# Altium schematic symbol library 1.0 - 常见芯片.SchLib: 188 symbols (part 2 of 2)
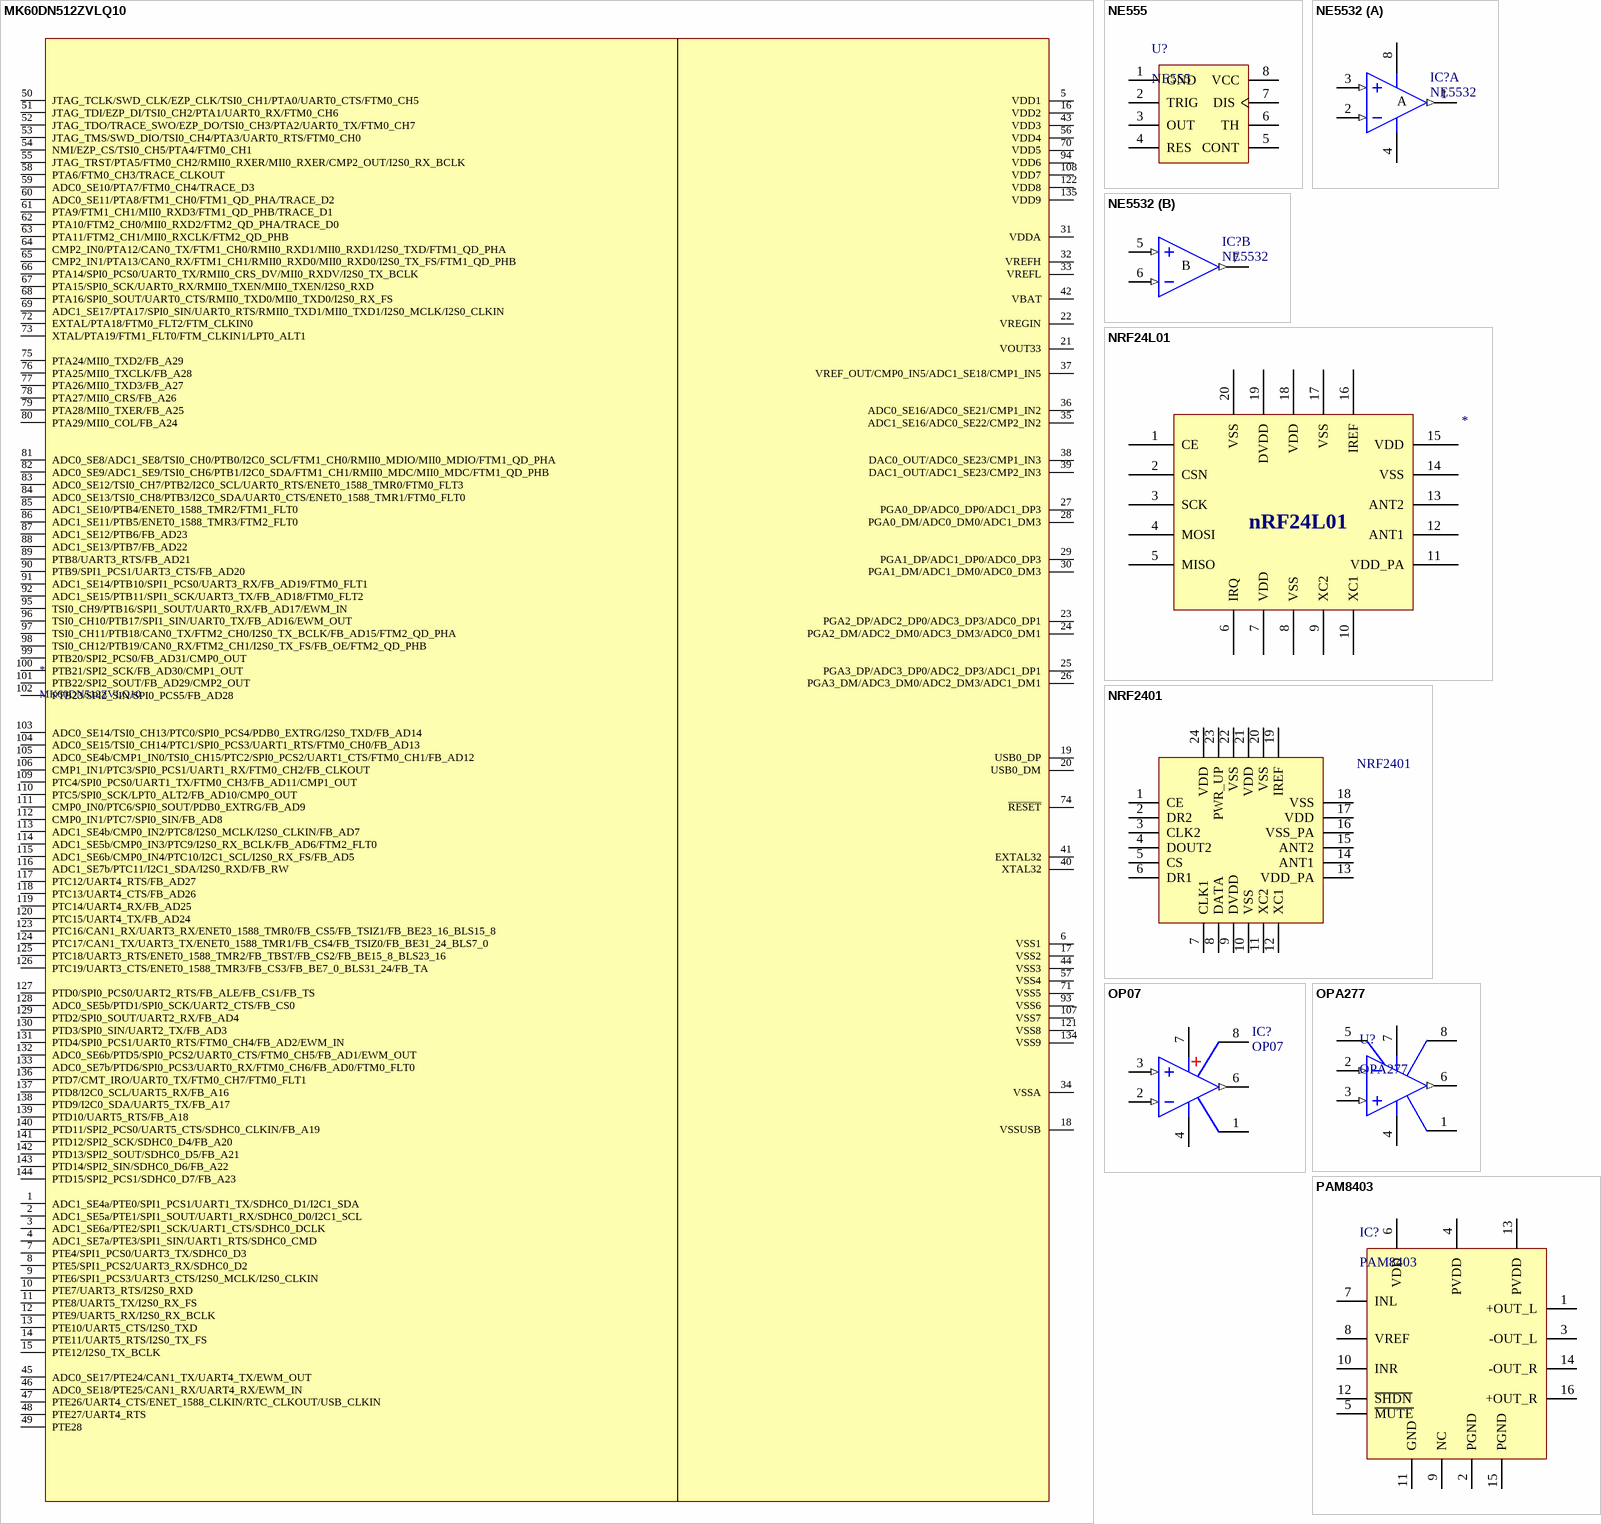
[diagram p14: symbols MK60DN512ZVLQ10 to PAM8403]

## MK60DN512ZVLQ10
designator *
飞思卡尔K60; 联系卖家，免费查找封装: 唯一出售店铺网址https://shop463601444.taobao.com
footprint LQFP144-20*20 (20x20mm，0.5mm       淘宝ID:黄晶宝石)
pins: 1 ADC1_SE4a/PTE0/SPI1_PCS1/UART1_TX/SDHC0_D1/I2C1_SDA, 2 ADC1_SE5a/PTE1/SPI1_SOUT/UART1_RX/SDHC0_D0/I2C1_SCL, 3 ADC1_SE6a/PTE2/SPI1_SCK/UART1_CTS/SDHC0_DCLK, 4 ADC1_SE7a/PTE3/SPI1_SIN/UART1_RTS/SDHC0_CMD, 5 VDD1, 6 VSS1, 7 PTE4/SPI1_PCS0/UART3_TX/SDHC0_D3, 8 PTE5/SPI1_PCS2/UART3_RX/SDHC0_D2, 9 PTE6/SPI1_PCS3/UART3_CTS/I2S0_MCLK/I2S0_CLKIN, 10 PTE7/UART3_RTS/I2S0_RXD, 11 PTE8/UART5_TX/I2S0_RX_FS, 12 PTE9/UART5_RX/I2S0_RX_BCLK, 13 PTE10/UART5_CTS/I2S0_TXD, 14 PTE11/UART5_RTS/I2S0_TX_FS, 15 PTE12/I2S0_TX_BCLK, 16 VDD2, 17 VSS2, 18 VSSUSB, 19 USB0_DP, 20 USB0_DM, 21 VOUT33, 22 VREGIN, 23 PGA2_DP/ADC2_DP0/ADC3_DP3/ADC0_DP1, 24 PGA2_DM/ADC2_DM0/ADC3_DM3/ADC0_DM1, 25 PGA3_DP/ADC3_DP0/ADC2_DP3/ADC1_DP1, 26 PGA3_DM/ADC3_DM0/ADC2_DM3/ADC1_DM1, 27 PGA0_DP/ADC0_DP0/ADC1_DP3, 28 PGA0_DM/ADC0_DM0/ADC1_DM3, 29 PGA1_DP/ADC1_DP0/ADC0_DP3, 30 PGA1_DM/ADC1_DM0/ADC0_DM3, 31 VDDA, 32 VREFH, 33 VREFL, 34 VSSA, 35 ADC1_SE16/ADC0_SE22/CMP2_IN2, 36 ADC0_SE16/ADC0_SE21/CMP1_IN2, 37 VREF_OUT/CMP0_IN5/ADC1_SE18/CMP1_IN5, 38 DAC0_OUT/ADC0_SE23/CMP1_IN3, 39 DAC1_OUT/ADC1_SE23/CMP2_IN3, 40 XTAL32, 41 EXTAL32, 42 VBAT, 43 VDD3, 44 VSS3, 45 ADC0_SE17/PTE24/CAN1_TX/UART4_TX/EWM_OUT, 46 ADC0_SE18/PTE25/CAN1_RX/UART4_RX/EWM_IN, 47 PTE26/UART4_CTS/ENET_1588_CLKIN/RTC_CLKOUT/USB_CLKIN, 48 PTE27/UART4_RTS, 49 PTE28, 50 JTAG_TCLK/SWD_CLK/EZP_CLK/TSI0_CH1/PTA0/UART0_CTS/FTM0_CH5, 51 JTAG_TDI/EZP_DI/TSI0_CH2/PTA1/UART0_RX/FTM0_CH6, 52 JTAG_TDO/TRACE_SWO/EZP_DO/TSI0_CH3/PTA2/UART0_TX/FTM0_CH7, 53 JTAG_TMS/SWD_DIO/TSI0_CH4/PTA3/UART0_RTS/FTM0_CH0, 54 NMI/EZP_CS/TSI0_CH5/PTA4/FTM0_CH1, 55 JTAG_TRST/PTA5/FTM0_CH2/RMII0_RXER/MII0_RXER/CMP2_OUT/I2S0_RX_BCLK, 56 VDD4, 57 VSS4, 58 PTA6/FTM0_CH3/TRACE_CLKOUT, 59 ADC0_SE10/PTA7/FTM0_CH4/TRACE_D3, 60 ADC0_SE11/PTA8/FTM1_CH0/FTM1_QD_PHA/TRACE_D2, 61 PTA9/FTM1_CH1/MII0_RXD3/FTM1_QD_PHB/TRACE_D1, 62 PTA10/FTM2_CH0/MII0_RXD2/FTM2_QD_PHA/TRACE_D0, 63 PTA11/FTM2_CH1/MII0_RXCLK/FTM2_QD_PHB, 64 CMP2_IN0/PTA12/CAN0_TX/FTM1_CH0/RMII0_RXD1/MII0_RXD1/I2S0_TXD/FTM1_QD_PHA, 65 CMP2_IN1/PTA13/CAN0_RX/FTM1_CH1/RMII0_RXD0/MII0_RXD0/I2S0_TX_FS/FTM1_QD_PHB, 66 PTA14/SPI0_PCS0/UART0_TX/RMII0_CRS_DV/MII0_RXDV/I2S0_TX_BCLK, 67 PTA15/SPI0_SCK/UART0_RX/RMII0_TXEN/MII0_TXEN/I2S0_RXD, 68 PTA16/SPI0_SOUT/UART0_CTS/RMII0_TXD0/MII0_TXD0/I2S0_RX_FS, 69 ADC1_SE17/PTA17/SPI0_SIN/UART0_RTS/RMII0_TXD1/MII0_TXD1/I2S0_MCLK/I2S0_CLKIN, 70 VDD5, 71 VSS5, 72 EXTAL/PTA18/FTM0_FLT2/FTM_CLKIN0, 73 XTAL/PTA19/FTM1_FLT0/FTM_CLKIN1/LPT0_ALT1, 74 ~{RESET}, 75 PTA24/MII0_TXD2/FB_A29, 76 PTA25/MII0_TXCLK/FB_A28, 77 PTA26/MII0_TXD3/FB_A27, 78 PTA27/MII0_CRS/FB_A26, 79 PTA28/MII0_TXER/FB_A25, 80 PTA29/MII0_COL/FB_A24, 81 ADC0_SE8/ADC1_SE8/TSI0_CH0/PTB0/I2C0_SCL/FTM1_CH0/RMII0_MDIO/MII0_MDIO/FTM1_QD_PHA, 82 ADC0_SE9/ADC1_SE9/TSI0_CH6/PTB1/I2C0_SDA/FTM1_CH1/RMII0_MDC/MII0_MDC/FTM1_QD_PHB, 83 ADC0_SE12/TSI0_CH7/PTB2/I2C0_SCL/UART0_RTS/ENET0_1588_TMR0/FTM0_FLT3, 84 ADC0_SE13/TSI0_CH8/PTB3/I2C0_SDA/UART0_CTS/ENET0_1588_TMR1/FTM0_FLT0, 85 ADC1_SE10/PTB4/ENET0_1588_TMR2/FTM1_FLT0, 86 ADC1_SE11/PTB5/ENET0_1588_TMR3/FTM2_FLT0, 87 ADC1_SE12/PTB6/FB_AD23, 88 ADC1_SE13/PTB7/FB_AD22, 89 PTB8/UART3_RTS/FB_AD21, 90 PTB9/SPI1_PCS1/UART3_CTS/FB_AD20, 91 ADC1_SE14/PTB10/SPI1_PCS0/UART3_RX/FB_AD19/FTM0_FLT1, 92 ADC1_SE15/PTB11/SPI1_SCK/UART3_TX/FB_AD18/FTM0_FLT2, 93 VSS6, 94 VDD6, 95 TSI0_CH9/PTB16/SPI1_SOUT/UART0_RX/FB_AD17/EWM_IN, 96 TSI0_CH10/PTB17/SPI1_SIN/UART0_TX/FB_AD16/EWM_OUT, 97 TSI0_CH11/PTB18/CAN0_TX/FTM2_CH0/I2S0_TX_BCLK/FB_AD15/FTM2_QD_PHA, 98 TSI0_CH12/PTB19/CAN0_RX/FTM2_CH1/I2S0_TX_FS/FB_OE/FTM2_QD_PHB, 99 PTB20/SPI2_PCS0/FB_AD31/CMP0_OUT, 100 PTB21/SPI2_SCK/FB_AD30/CMP1_OUT, 101 PTB22/SPI2_SOUT/FB_AD29/CMP2_OUT, 102 PTB23/SPI2_SIN/SPI0_PCS5/FB_AD28, 103 ADC0_SE14/TSI0_CH13/PTC0/SPI0_PCS4/PDB0_EXTRG/I2S0_TXD/FB_AD14, 104 ADC0_SE15/TSI0_CH14/PTC1/SPI0_PCS3/UART1_RTS/FTM0_CH0/FB_AD13, 105 ADC0_SE4b/CMP1_IN0/TSI0_CH15/PTC2/SPI0_PCS2/UART1_CTS/FTM0_CH1/FB_AD12, 106 CMP1_IN1/PTC3/SPI0_PCS1/UART1_RX/FTM0_CH2/FB_CLKOUT, 107 VSS7, 108 VDD7, 109 PTC4/SPI0_PCS0/UART1_TX/FTM0_CH3/FB_AD11/CMP1_OUT, 110 PTC5/SPI0_SCK/LPT0_ALT2/FB_AD10/CMP0_OUT, 111 CMP0_IN0/PTC6/SPI0_SOUT/PDB0_EXTRG/FB_AD9, 112 CMP0_IN1/PTC7/SPI0_SIN/FB_AD8, 113 ADC1_SE4b/CMP0_IN2/PTC8/I2S0_MCLK/I2S0_CLKIN/FB_AD7, 114 ADC1_SE5b/CMP0_IN3/PTC9/I2S0_RX_BCLK/FB_AD6/FTM2_FLT0, 115 ADC1_SE6b/CMP0_IN4/PTC10/I2C1_SCL/I2S0_RX_FS/FB_AD5, 116 ADC1_SE7b/PTC11/I2C1_SDA/I2S0_RXD/FB_RW, 117 PTC12/UART4_RTS/FB_AD27, 118 PTC13/UART4_CTS/FB_AD26, 119 PTC14/UART4_RX/FB_AD25, 120 PTC15/UART4_TX/FB_AD24, 121 VSS8, 122 VDD8, 123 PTC16/CAN1_RX/UART3_RX/ENET0_1588_TMR0/FB_CS5/FB_TSIZ1/FB_BE23_16_BLS15_8, 124 PTC17/CAN1_TX/UART3_TX/ENET0_1588_TMR1/FB_CS4/FB_TSIZ0/FB_BE31_24_BLS7_0, 125 PTC18/UART3_RTS/ENET0_1588_TMR2/FB_TBST/FB_CS2/FB_BE15_8_BLS23_16, 126 PTC19/UART3_CTS/ENET0_1588_TMR3/FB_CS3/FB_BE7_0_BLS31_24/FB_TA, 127 PTD0/SPI0_PCS0/UART2_RTS/FB_ALE/FB_CS1/FB_TS, 128 ADC0_SE5b/PTD1/SPI0_SCK/UART2_CTS/FB_CS0, 129 PTD2/SPI0_SOUT/UART2_RX/FB_AD4, 130 PTD3/SPI0_SIN/UART2_TX/FB_AD3, 131 PTD4/SPI0_PCS1/UART0_RTS/FTM0_CH4/FB_AD2/EWM_IN, 132 ADC0_SE6b/PTD5/SPI0_PCS2/UART0_CTS/FTM0_CH5/FB_AD1/EWM_OUT, 133 ADC0_SE7b/PTD6/SPI0_PCS3/UART0_RX/FTM0_CH6/FB_AD0/FTM0_FLT0, 134 VSS9, 135 VDD9, 136 PTD7/CMT_IRO/UART0_TX/FTM0_CH7/FTM0_FLT1, 137 PTD8/I2C0_SCL/UART5_RX/FB_A16, 138 PTD9/I2C0_SDA/UART5_TX/FB_A17, 139 PTD10/UART5_RTS/FB_A18, 140 PTD11/SPI2_PCS0/UART5_CTS/SDHC0_CLKIN/FB_A19, 141 PTD12/SPI2_SCK/SDHC0_D4/FB_A20, 142 PTD13/SPI2_SOUT/SDHC0_D5/FB_A21, 143 PTD14/SPI2_SIN/SDHC0_D6/FB_A22, 144 PTD15/SPI2_PCS1/SDHC0_D7/FB_A23

## NE555
designator U?
单路时基芯片; 联系卖家，免费查找封装: 唯一出售店铺网址https://shop463601444.taobao.com; BOM名称: 单路时基芯片
footprint SOP8_L (5*6*1.8mm（长宽高）)
footprint SOP8_M (5*6*1.8mm（长宽高）)
footprint SOP8_N (5*6*1.8mm（长宽高）)
footprint DIP8-300 (9.4*7.6*3.8(长宽高）)
footprint DIP8-300_MH (带底座 9.4*7.6*3.8(长宽高）)
pins: 1 GND, 2 TRIG, 3 OUT, 4 RES, 5 CONT, 6 TH, 7 DIS, 8 VCC

## NE5532
designator IC?
双路低噪声音频运放; 联系卖家，免费查找封装: 唯一出售店铺网址https://shop463601444.taobao.com; BOM名称: 双路低噪声音频运放
footprint SOP8_L (5*6*1.8mm（长宽高）)
footprint SOP8_N (5*6*1.8mm（长宽高）)
footprint SOP8_M (5*6*1.8mm（长宽高）)
footprint DIP8-300 (9.4*7.6*3.8(长宽高）)
part A pins: 1 OUT (out), 2 IN- (in), 3 IN+ (in), 4 V- (power), 8 V+ (power)
part B pins: 5 IN+ (in), 6 IN- (in), 7 OUT (out)
part A text: A
part B text: B

## NRF24L01
designator ?
2.4GHZ无线收发器; 联系卖家，免费查找封装: 唯一出售店铺网址https://shop463601444.taobao.com
footprint QFN20 4x4_N (20脚，长x宽x高：4x4x0.95mm，脚距：0.5mm)
pins: 1 CE, 2 CSN, 3 SCK, 4 MOSI, 5 MISO, 6 IRQ, 7 VDD, 8 VSS, 9 XC2, 10 XC1, 11 VDD_PA, 12 ANT1, 13 ANT2, 14 VSS, 15 VDD, 16 IREF, 17 VSS, 18 VDD, 19 DVDD, 20 VSS
text: nRF24L01

## NRF2401
designator ?
2.4GHZ无线收发器; 联系卖家，免费查找封装: 唯一出售店铺网址https://shop463601444.taobao.com
footprint QFN-24 (Footprint not found)
pins: 1 CE, 2 DR2, 3 CLK2, 4 DOUT2, 5 CS, 6 DR1, 7 CLK1, 8 DATA, 9 DVDD, 10 VSS, 11 XC2, 12 XC1, 13 VDD_PA, 14 ANT1, 15 ANT2, 16 VSS_PA, 17 VDD, 18 VSS, 19 IREF, 20 VSS, 21 VDD, 22 VSS, 23 PWR_UP, 24 VDD

## OP07
designator IC?
单路精密运放; 联系卖家，免费查找封装: 唯一出售店铺网址https://shop463601444.taobao.com; BOM名称: 单路精密运放
footprint SOP8_L (5*6*1.8mm（长宽高）)
footprint SOP8_N (5*6*1.8mm（长宽高）)
footprint SOP8_M (5*6*1.8mm（长宽高）)
footprint DIP8-300 (9.4*7.6*3.8(长宽高）)
pins: 1, 2 IN- (in), 3 IN+ (in), 4 V- (power), 6 OUT (out), 7 V+ (power), 8

## OPA277
designator U?
双电源高精度运放; 联系卖家，免费查找封装: 唯一出售店铺网址https://shop463601444.taobao.com; BOM名称: 双电源高精度运放
footprint SOP8_N (5*6*1.8mm（长宽高）)
footprint SOP8_L (5*6*1.8mm（长宽高）)
footprint SOP8_M (5*6*1.8mm（长宽高）)
pins: 1, 2 IN- (in), 3 IN+ (in), 4 V- (power), 5 NC (power), 6 OS NUL (out), 7, 8

## PAM8403
designator IC?
2X3W D类功放; 联系卖家，免费查找封装: 唯一出售店铺网址https://shop463601444.taobao.com; BOM名称: 2X3W D类功放
footprint SOP16_N (10.3*6.2*1.8mm（长宽高）)
footprint SOP16_L (10.3*6.2*1.8mm（长宽高）)
footprint SOP16_M (10.3*6.2*1.8mm（长宽高）)
pins: 1 +OUT_L, 2 PGND, 3 -OUT_L, 4 PVDD, 5 ~{MUTE}, 6 VDD, 7 INL, 8 VREF, 9 NC, 10 INR, 11 GND, 12 ~{SHDN}, 13 PVDD, 14 -OUT_R, 15 PGND, 16 +OUT_R

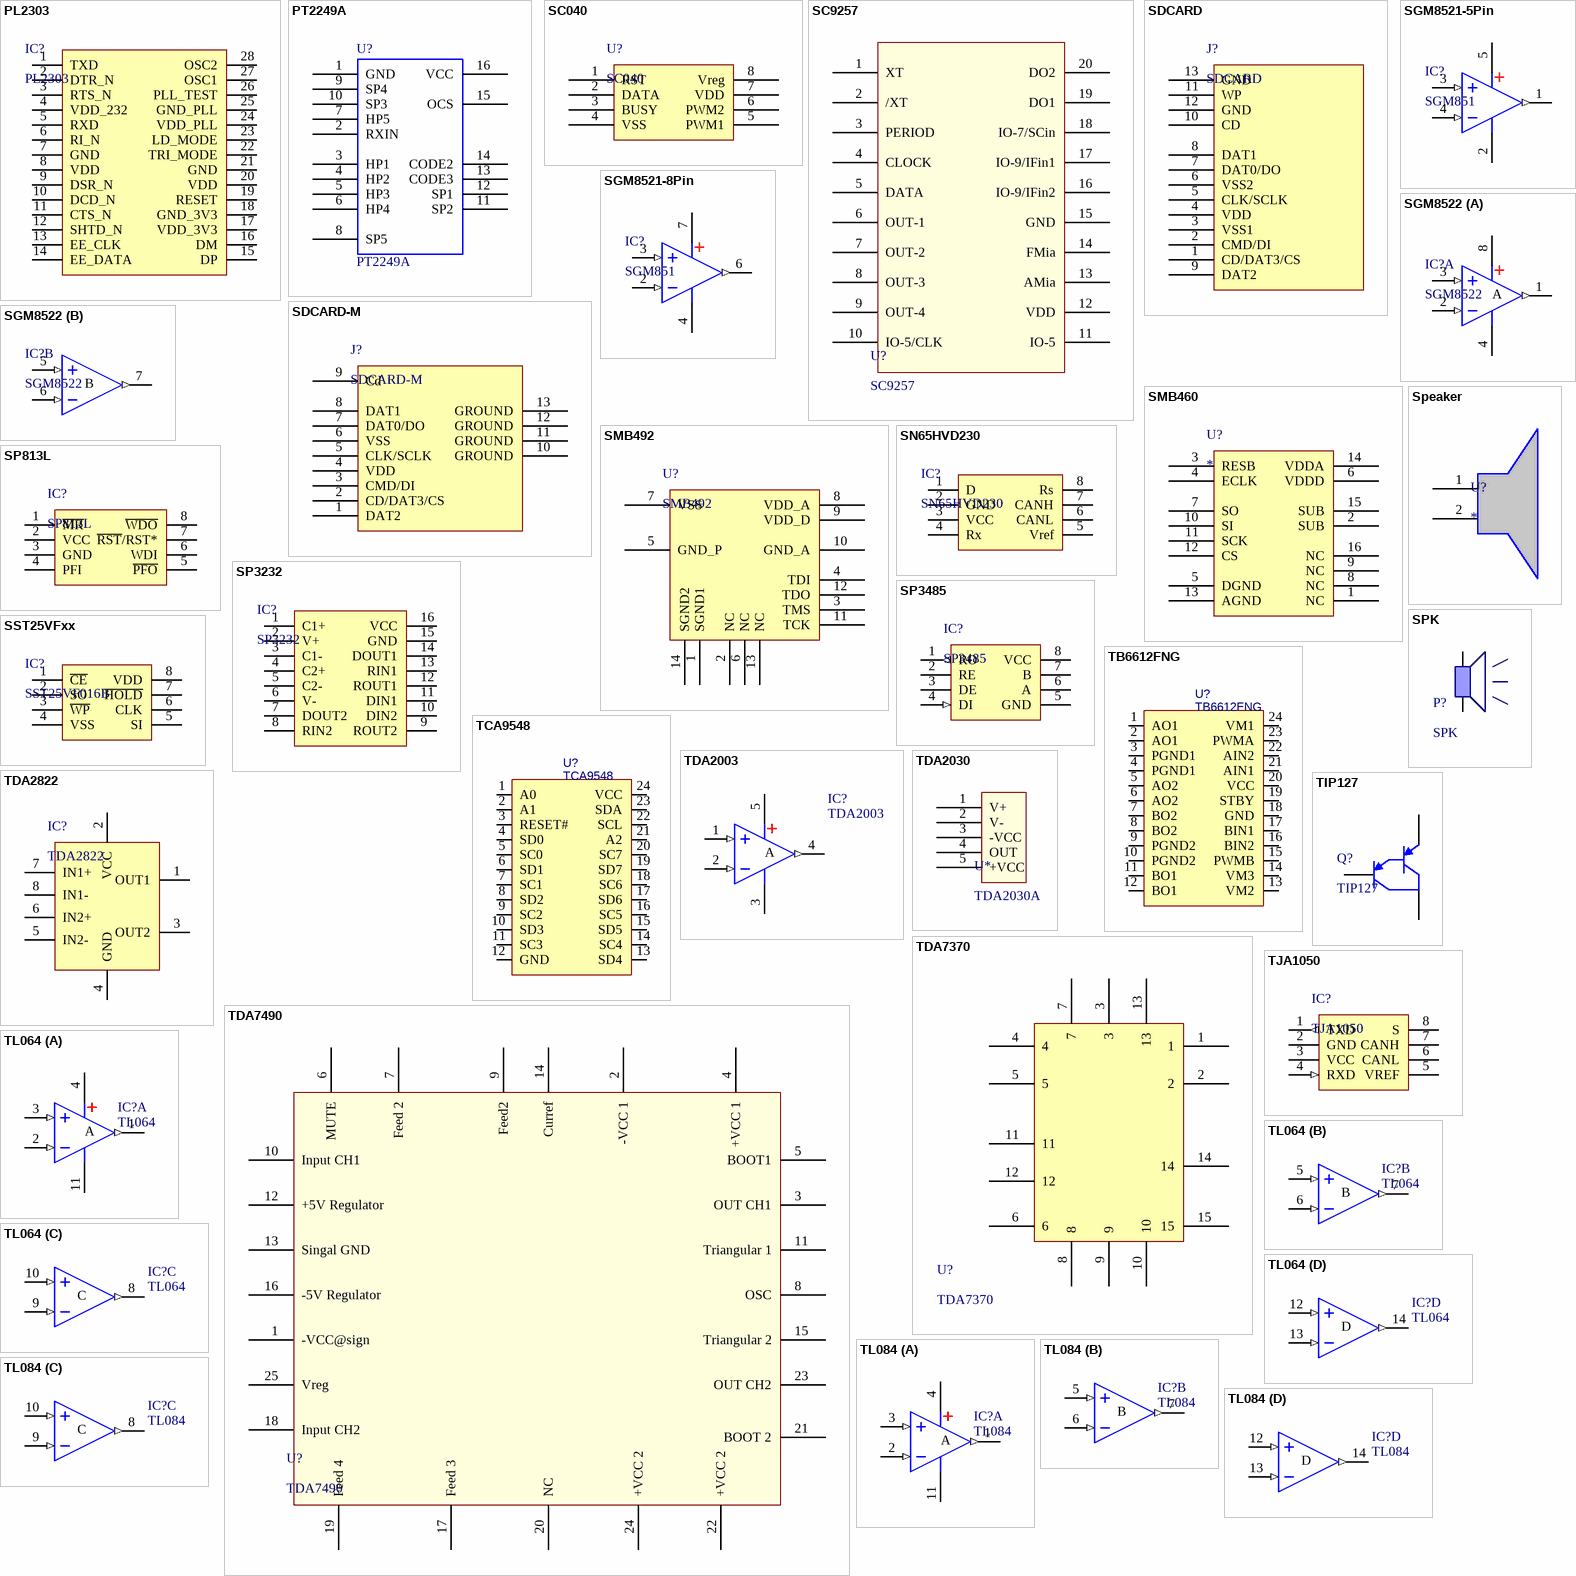
[diagram p9: symbols PL2303 to TL084]

## PL2303
designator IC?
USB转RS232; 联系卖家，免费查找封装: 唯一出售店铺网址https://shop463601444.taobao.com; BOM名称: USB转RS232
footprint SSOP28_N (10.2*7.8*1.9mm(长宽高）)
footprint SSOP28_L (10.2*7.8*1.9mm(长宽高）)
footprint SSOP28_M (10.2*7.8*1.9mm(长宽高）)
pins: 1 TXD, 2 DTR_N, 3 RTS_N, 4 VDD_232, 5 RXD, 6 RI_N, 7 GND, 8 VDD, 9 DSR_N, 10 DCD_N, 11 CTS_N, 12 SHTD_N, 13 EE_CLK, 14 EE_DATA, 15 DP, 16 DM, 17 VDD_3V3, 18 GND_3V3, 19 RESET, 20 VDD, 21 GND, 22 TRI_MODE, 23 LD_MODE, 24 VDD_PLL, 25 GND_PLL, 26 PLL_TEST, 27 OSC1, 28 OSC2

## PT2249A
designator U?
红外遥控接收器; 联系卖家，免费查找封装: 唯一出售店铺网址https://shop463601444.taobao.com
footprint DIP-16 (19.3*7.6*3.8(长宽高）)
pins: 1 GND, 2 RXIN, 3 HP1, 4 HP2, 5 HP3, 6 HP4, 7 HP5, 8 SP5, 9 SP4, 10 SP3, 11 SP2, 12 SP1, 13 CODE3, 14 CODE2, 15 OCS, 16 VCC

## SC040
designator U?
语音; 联系卖家，免费查找封装: 唯一出售店铺网址https://shop463601444.taobao.com
footprint SOIC-8_150mil (封装库来自淘宝卖家 ID：黄晶宝石)
pins: 1 RST, 2 DATA, 3 BUSY, 4 VSS, 5 PWM1, 6 PWM2, 7 VDD, 8 Vreg

## SC9257
designator U?
数字调谐系统锁相环; 联系卖家，免费查找封装: 唯一出售店铺网址https://shop463601444.taobao.com
pins: 1 XT, 2 /XT, 3 PERIOD, 4 CLOCK, 5 DATA, 6 OUT-1, 7 OUT-2, 8 OUT-3, 9 OUT-4, 10 IO-5/CLK, 11 IO-5, 12 VDD, 13 AMia, 14 FMia, 15 GND, 16 IO-9/IFin2, 17 IO-9/IFin1, 18 IO-7/SCin, 19 DO1, 20 DO2

## SDCARD
designator J?
SD卡自弹; 联系卖家，免费查找封装: 唯一出售店铺网址https://shop463601444.taobao.com
footprint SDCARD_B (SD卡自弹)
pins: 1 CD/DAT3/CS, 2 CMD/DI, 3 VSS1, 4 VDD, 5 CLK/SCLK, 6 VSS2, 7 DAT0/DO, 8 DAT1, 9 DAT2, 10 CD, 11 WP, 12 GND, 13 GND

## SDCARD-M
designator J?
TF卡槽; 联系卖家，免费查找封装: 唯一出售店铺网址https://shop463601444.taobao.com
footprint SDCARD-M (TF卡       淘宝ID:黄晶宝石)
pins: 1 DAT2, 2 CD/DAT3/CS, 3 CMD/DI, 4 VDD, 5 CLK/SCLK, 6 VSS, 7 DAT0/DO, 8 DAT1, 9 Cd, 10 GROUND, 11 GROUND, 12 GROUND, 13 GROUND

## SGM8521-5Pin
designator IC?, comment SGM851
轨至轨运放; 联系卖家，免费查找封装: 唯一出售店铺网址https://shop463601444.taobao.com; BOM名称: 轨至轨运放
footprint SOT23-5N (3x1.6x1.1mm(长宽高))
footprint SOT23-5L (3x1.6x1.1mm(长宽高))
footprint SOT23-5M (3x1.6x1.1mm(长宽高))
pins: 1 OUT (out), 2 V- (power), 3 IN+ (in), 4 IN- (in), 5 V+ (power)

## SGM8521-8Pin
designator IC?, comment SGM851
轨至轨运放; 联系卖家，免费查找封装: 唯一出售店铺网址https://shop463601444.taobao.com; BOM名称: 轨至轨运放
footprint SOP8_N (5*6*1.8mm（长宽高）)
footprint SOP8_L (4*5*1.8mm（长宽高）)
footprint SOP8_M (5*6*1.8mm（长宽高）)
pins: 2 IN- (in), 3 (in), 4 V- (power), 6 OUT (out), 7 V+ (power)

## SGM8522
designator IC?
轨至轨运放; 联系卖家，免费查找封装: 唯一出售店铺网址https://shop463601444.taobao.com; BOM名称: 轨至轨运放
footprint SOP8_N (5*6*1.8mm（长宽高）)
footprint SOP8_L (5*6*1.8mm（长宽高）)
footprint SOP8_M (5*6*1.8mm（长宽高）)
part A pins: 1 OUT (out), 2 IN- (in), 3 IN+ (in), 4 V- (power), 8 V+ (power)
part B pins: 5 IN+ (in), 6 IN- (in), 7 OUT (out)
part A text: A
part B text: B

## SMB460
designator U?
SMB460; 联系卖家，免费查找封装: 唯一出售店铺网址https://shop463601444.taobao.com
footprint SOP16W_M (Footprint not found)
pins: 1 NC, 2 SUB, 3 RESB, 4 ECLK, 5 DGND, 6 VDDD, 7 SO, 8 NC, 9 NC, 10 SI, 11 SCK, 12 CS, 13 AGND, 14 VDDA, 15 SUB, 16 NC

## SMB492
designator U?
外围加速度传感器; 联系卖家，免费查找封装: 唯一出售店铺网址https://shop463601444.taobao.com
footprint SOP14_M (Footprint not found)
pins: 1 SGND1, 2 NC, 3 TMS, 4 TDI, 5 GND_P, 6 NC, 7 VSS, 8 VDD_A, 9 VDD_D, 10 GND_A, 11 TCK, 12 TDO, 13 NC, 14 SGND2

## SN65HVD230
designator IC?
CAN芯片; 联系卖家，免费查找封装: 唯一出售店铺网址https://shop463601444.taobao.com; BOM名称: CAN芯片
footprint SOP8_N (5*6*1.8mm（长宽高）)
footprint SOP8_L (5*6*1.8mm（长宽高）)
footprint SOP8_M (5*6*1.8mm（长宽高）)
pins: 1 D, 2 GND, 3 VCC, 4 Rx, 5 Vref, 6 CANL, 7 CANH, 8 Rs

## SP813L
designator IC?
处理器监控芯片; 联系卖家，免费查找封装: 唯一出售店铺网址https://shop463601444.taobao.com; BOM名称: 处理器监控芯片
footprint SOP8_L (5*6*1.8mm（长宽高）)
footprint SOP8_N (5*6*1.8mm（长宽高）)
footprint SOP8_M (5*6*1.8mm（长宽高）)
pins: 1 ~{MR}, 2 VCC, 3 GND, 4 PFI, 5 ~{PFO}, 6 WDI, 7 ~{RST}/RST*, 8 ~{WDO}

## SP3232
designator IC?
RS232通讯芯片; 联系卖家，免费查找封装: 唯一出售店铺网址https://shop463601444.taobao.com; BOM名称: RS232通讯芯片
footprint DIP16-300 (19.3*7.6*3.8(长宽高）)
footprint SOP16_L (10.3*6.2*1.8mm（长宽高）)
footprint SOP16_N (10.3*6.2*1.8mm（长宽高）)
footprint SOP16_M (10.3*6.2*1.8mm（长宽高）)
footprint TSSOP16_L (5*6.4*1mm（长宽高）)
footprint TSSOP16_M (5*6.4*1mm（长宽高）)
footprint TSSOP16_N (5*6.4*1mm（长宽高）)
pins: 1 C1+, 2 V+, 3 C1-, 4 C2+, 5 C2-, 6 V-, 7 DOUT2, 8 RIN2, 9 ROUT2, 10 DIN2, 11 DIN1, 12 ROUT1, 13 RIN1, 14 DOUT1, 15 GND, 16 VCC

## SP3485
designator IC?
RS485总线收发芯片; 联系卖家，免费查找封装: 唯一出售店铺网址https://shop463601444.taobao.com; BOM名称: RS485总线收发芯片
footprint SOP8_L (5*6*1.8mm（长宽高）)
footprint SOP8_N (5*6*1.8mm（长宽高）)
footprint SOP8_M (5*6*1.8mm（长宽高）)
pins: 1 RO (out), 2 RE, 3 DE, 4 DI (in), 5 GND, 6 A, 7 B, 8 VCC

## Speaker
designator U?
Speaker; 联系卖家，免费查找封装: 唯一出售店铺网址https://shop463601444.taobao.com
footprint HDR2.54-LI-2P (封装库来自淘宝卖家 ID：黄晶宝石)
pins: 1 0, 2 1

## SPK
designator P?
Speaker; 联系卖家，免费查找封装: 唯一出售店铺网址https://shop463601444.taobao.com
footprint HDR2.54-LI-2P (封装库来自淘宝卖家 ID：黄晶宝石)
pins: 1, 2

## SST25VFxx
designator IC?, comment SST25VF016B
外置Flash; 联系卖家，免费查找封装: 唯一出售店铺网址https://shop463601444.taobao.com; BOM名称: 外置Flash
footprint SOP8W_N (5.3*8.3*1.8mm（长宽高）)
footprint SOP8W_L (5.3*8.3*1.8mm（长宽高）)
footprint SOP8W_M (5.3*8.3*1.8mm（长宽高）)
pins: 1 ~{CE}, 2 SO, 3 ~{WP}, 4 VSS, 5 SI, 6 CLK, 7 ~{HOLD}, 8 VDD

## TB6612FNG
designator U?
电机驱动; 联系卖家，免费查找封装: 唯一出售店铺网址https://shop463601444.taobao.com; BOM名称: TB6612FNG
footprint SSOP24_M (8.3*7.8*1.6（长宽高）)
pins: 1 AO1, 2 AO1, 3 PGND1, 4 PGND1, 5 AO2, 6 AO2, 7 BO2, 8 BO2, 9 PGND2, 10 PGND2, 11 BO1, 12 BO1, 13 VM2, 14 VM3, 15 PWMB, 16 BIN2, 17 BIN1, 18 GND, 19 STBY, 20 VCC, 21 AIN1, 22 AIN2, 23 PWMA, 24 VM1

## TCA9548
designator U?
I2C多路复用器; 联系卖家，免费查找封装: 唯一出售店铺网址https://shop463601444.taobao.com
footprint TSSOP-24 (7.80x4.40x1.00 e=0.65 封装库来自淘宝卖家 ID：黄晶宝石)
pins: 1 A0, 2 A1, 3 RESET#, 4 SD0, 5 SC0, 6 SD1, 7 SC1, 8 SD2, 9 SC2, 10 SD3, 11 SC3, 12 GND, 13 SD4, 14 SC4, 15 SD5, 16 SC5, 17 SD6, 18 SC6, 19 SD7, 20 SC7, 21 A2, 22 SCL, 23 SDA, 24 VCC

## TDA2003
designator IC?
单路音频功放; 联系卖家，免费查找封装: 唯一出售店铺网址https://shop463601444.taobao.com; BOM名称: 单路音频功放
footprint SOP8_L (5*6*1.8mm（长宽高）)
footprint SOP8_N (5*6*1.8mm（长宽高）)
footprint SOP8_M (5*6*1.8mm（长宽高）)
footprint DIP8-300 (9.4*7.6*3.8(长宽高）)
pins: 1 IN+ (in), 2 IN- (in), 3 V- (power), 4 OUT (out), 5 V+ (power)
text: A

## TDA2030
designator U*, comment TDA2030A
音频功放; 联系卖家，免费查找封装: 唯一出售店铺网址https://shop463601444.taobao.com
footprint TO220-5
pins: 1 V+, 2 V-, 3 -VCC, 4 OUT, 5 +VCC

## TDA2822
designator IC?
双通道音频功放; 联系卖家，免费查找封装: 唯一出售店铺网址https://shop463601444.taobao.com; BOM名称: 双通道音频功放
footprint DIP8-300 (9.4*7.6*3.8(长宽高）)
footprint SOP8_L (5*6*1.8mm（长宽高）)
footprint SOP8_N (5*6*1.8mm（长宽高）)
footprint SOP8_M (5*6*1.8mm（长宽高）)
footprint DIP8-300_MH (带底座 9.4*7.6*3.8(长宽高）)
pins: 1 OUT1, 2 VCC, 3 OUT2, 4 GND, 5 IN2-, 6 IN2+, 7 IN1+, 8 IN1-

## TDA7370
designator U?
音频功放; 联系卖家，免费查找封装: 唯一出售店铺网址https://shop463601444.taobao.com
footprint Multiwatt15-V
pins: 1, 2, 3, 4, 5, 6, 7, 8, 9, 10, 11, 12, 13, 14, 15

## TDA7490
designator U?
50W-D类立体声功率放大器; 联系卖家，免费查找封装: 唯一出售店铺网址https://shop463601444.taobao.com
footprint dip_25
pins: 1 -VCC@sign, 2 -VCC 1, 3 OUT CH1, 4 +VCC 1, 5 BOOT1, 6 MUTE, 7 Feed 2, 8 OSC, 9 Feed2, 10 Input CH1, 11 Triangular 1, 12 +5V Regulator, 13 Singal GND, 14 Curref, 15 Triangular 2, 16 -5V Regulator, 17 Feed 3, 18 Input CH2, 19 Feed 4, 20 NC, 21 BOOT 2, 22 +VCC 2, 23 OUT CH2, 24 +VCC 2, 25 Vreg

## TIP127
designator Q?
PNP型达林顿晶体管; 联系卖家，免费查找封装: 唯一出售店铺网址https://shop463601444.taobao.com; BOM名称: PNP型达林顿晶体管
footprint TO-220 (220，3脚晶体管    封装库来自淘宝卖家 ID：黄晶宝石)
pins: 1 B, 2 C, 3 E

## TJA1050
designator IC?
CAN总线收发芯片; 联系卖家，免费查找封装: 唯一出售店铺网址https://shop463601444.taobao.com; BOM名称: CAN总线收发芯片
footprint SOP8_L (5*6*1.8mm（长宽高）)
footprint SOP8_N (5*6*1.8mm（长宽高）)
footprint SOP8_M (5*6*1.8mm（长宽高）)
pins: 1 TXD (out), 2 GND, 3 VCC, 4 RXD (in), 5 VREF, 6 CANL, 7 CANH, 8 S

## TL064
designator IC?
4路运放; 联系卖家，免费查找封装: 唯一出售店铺网址https://shop463601444.taobao.com; BOM名称: 4路运放
footprint SOP14_L (8.7*6.2*1.8mm（长宽高）)
footprint SOP14_M (8.7*6.2*1.8mm（长宽高）)
footprint SOP14_N (8.7*6.2*1.8mm（长宽高）)
footprint DIP14-300_MH (带底座  19*7.6*3.8(长宽高）)
footprint DIP14-300 (19*7.6*3.8(长宽高）)
part A pins: 1 OUT (out), 2 IN- (in), 3 IN+ (in), 4 V+ (power), 11 V- (power)
part B pins: 5 IN+ (in), 6 IN- (in), 7 OUT (out)
part C pins: 8 OUT (out), 9 IN- (in), 10 IN+ (in)
part D pins: 12 IN+ (in), 13 IN- (in), 14 OUT (out)
part A text: A
part B text: B
part C text: C
part D text: D

## TL084
designator IC?
4路运放; 联系卖家，免费查找封装: 唯一出售店铺网址https://shop463601444.taobao.com; BOM名称: 4路运放
footprint SOP14_L (8.7*6.2*1.8mm（长宽高）)
footprint SOP14_M (8.7*6.2*1.8mm（长宽高）)
footprint SOP14_N (8.7*6.2*1.8mm（长宽高）)
footprint DIP14-300_MH (带底座  19*7.6*3.8(长宽高）)
footprint DIP14-300 (19*7.6*3.8(长宽高）)
part A pins: 1 OUT (out), 2 IN- (in), 3 IN+ (in), 4 V+ (power), 11 V- (power)
part B pins: 5 IN+ (in), 6 IN- (in), 7 OUT (out)
part C pins: 8 OUT (out), 9 IN- (in), 10 IN+ (in)
part D pins: 12 IN+ (in), 13 IN- (in), 14 OUT (out)
part A text: A
part B text: B
part C text: C
part D text: D

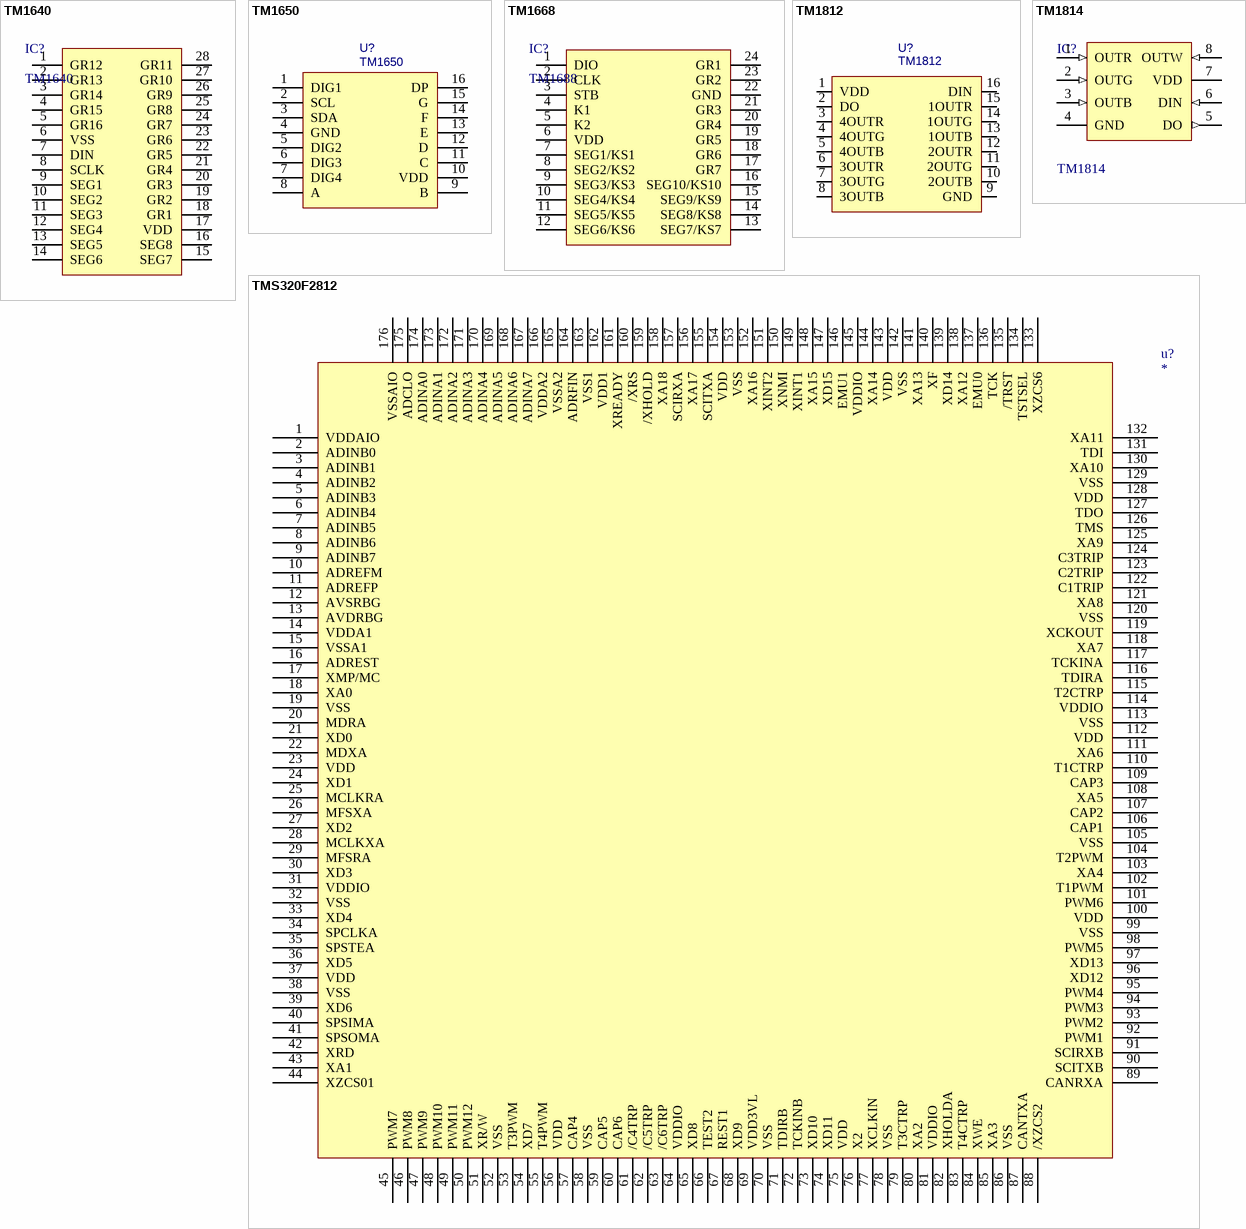
[diagram p10: symbols TM1640 to TMS320F2812]

## TM1640
designator IC?
LED驱动控制芯片; 联系卖家，免费查找封装: 唯一出售店铺网址https://shop463601444.taobao.com; BOM名称: LED驱动控制芯片
footprint SOP28_L (17.9*10.6*2.6mm（长宽高）)
footprint SOP28_M (17.9*10.6*2.6mm（长宽高）)
footprint SOP28_N (17.9*10.6*2.6mm（长宽高）)
pins: 1 GR12, 2 GR13, 3 GR14, 4 GR15, 5 GR16, 6 VSS, 7 DIN, 8 SCLK, 9 SEG1, 10 SEG2, 11 SEG3, 12 SEG4, 13 SEG5, 14 SEG6, 15 SEG7, 16 SEG8, 17 VDD, 18 GR1, 19 GR2, 20 GR3, 21 GR4, 22 GR5, 23 GR6, 24 GR7, 25 GR8, 26 GR9, 27 GR10, 28 GR11

## TM1650
designator U?
LED驱动控制芯片; 联系卖家，免费查找封装: 唯一出售店铺网址https://shop463601444.taobao.com
footprint SOIC-16 (封装库来自淘宝卖家 ID：黄晶宝石，其他均为盗版)
pins: 1 DIG1, 2 SCL, 3 SDA, 4 GND, 5 DIG2, 6 DIG3, 7 DIG4, 8 A, 9 B, 10 VDD, 11 C, 12 D, 13 E, 14 F, 15 G, 16 DP

## TM1668
designator IC?, comment TM1688
数码管按键扫描芯片; BOM名称: 数码管按键芯片; 联系卖家，免费查找封装: 唯一出售店铺网址https://shop463601444.taobao.com
footprint SOP24_N (15.4*10.6*2.6mm（长宽高）)
footprint SOP24_L (15.4*10.6*2.6mm（长宽高）)
footprint SOP24_M (15.4*10.6*2.6mm（长宽高）)
pins: 1 DIO, 2 CLK, 3 STB, 4 K1, 5 K2, 6 VDD, 7 SEG1/KS1, 8 SEG2/KS2, 9 SEG3/KS3, 10 SEG4/KS4, 11 SEG5/KS5, 12 SEG6/KS6, 13 SEG7/KS7, 14 SEG8/KS8, 15 SEG9/KS9, 16 SEG10/KS10, 17 GR7, 18 GR6, 19 GR5, 20 GR4, 21 GR3, 22 GND, 23 GR2, 24 GR1

## TM1812
designator U?
4通道RGB LED驱动芯片; 联系卖家，免费查找封装: 唯一出售店铺网址https://shop463601444.taobao.com
footprint SOIC-16_N (10.3*6.2*1.8mm（长宽高）)
pins: 1 VDD, 2 DO, 3 4OUTR, 4 4OUTG, 5 4OUTB, 6 3OUTR, 7 3OUTG, 8 3OUTB, 9 GND, 10 2OUTB, 11 2OUTG, 12 2OUTR, 13 1OUTB, 14 1OUTG, 15 1OUTR, 16 DIN

## TM1814
designator IC?
4通道 LED恒流驱动芯片; 联系卖家，免费查找封装: 唯一出售店铺网址https://shop463601444.taobao.com; BOM名称: 4通道 LED恒流驱动芯片
footprint SOP8_N (5*6*1.8mm（长宽高）)
footprint SOP8_L (5*6*1.8mm（长宽高）)
footprint SOP8_M (5*6*1.8mm（长宽高）)
footprint DIP8-300 (9.4*7.6*3.8(长宽高）)
pins: 1 OUTR (in), 2 OUTG (in), 3 OUTB (in), 4 GND, 5 DO (out), 6 DIN (in), 7 VDD, 8 OUTW (in)

## TMS320F2812
designator u?
DSP芯片; 联系卖家，免费查找封装: 唯一出售店铺网址https://shop463601444.taobao.com
footprint STM-LQFP176_N (Thin QFP, 176-Leads, Body 24x24mm, Pitch 0.5mm, IPC Medium Density)
pins: 1 VDDAIO, 2 ADINB0, 3 ADINB1, 4 ADINB2, 5 ADINB3, 6 ADINB4, 7 ADINB5, 8 ADINB6, 9 ADINB7, 10 ADREFM, 11 ADREFP, 12 AVSRBG, 13 AVDRBG, 14 VDDA1, 15 VSSA1, 16 ADREST, 17 XMP/MC, 18 XA0, 19 VSS, 20 MDRA, 21 XD0, 22 MDXA, 23 VDD, 24 XD1, 25 MCLKRA, 26 MFSXA, 27 XD2, 28 MCLKXA, 29 MFSRA, 30 XD3, 31 VDDIO, 32 VSS, 33 XD4, 34 SPCLKA, 35 SPSTEA, 36 XD5, 37 VDD, 38 VSS, 39 XD6, 40 SPSIMA, 41 SPSOMA, 42 XRD, 43 XA1, 44 XZCS01, 45 PWM7, 46 PWM8, 47 PWM9, 48 PWM10, 49 PWM11, 50 PWM12, 51 XR/W, 52 VSS, 53 T3PWM, 54 XD7, 55 T4PWM, 56 VDD, 57 CAP4, 58 VSS, 59 CAP5, 60 CAP6, 61 /C4TRP, 62 /C5TRP, 63 /C6TRP, 64 VDDIO, 65 XD8, 66 TEST2, 67 REST1, 68 XD9, 69 VDD3VL, 70 VSS, 71 TDIRB, 72 TCKINB, 73 XD10, 74 XD11, 75 VDD, 76 X2, 77 XCLKIN, 78 VSS, 79 T3CTRP, 80 XA2, 81 VDDIO, 82 XHOLDA, 83 T4CTRP, 84 XWE, 85 XA3, 86 VSS, 87 CANTXA, 88 /XZCS2, 89 CANRXA, 90 SCITXB, 91 SCIRXB, 92 PWM1, 93 PWM2, 94 PWM3, 95 PWM4, 96 XD12, 97 XD13, 98 PWM5, 99 VSS, 100 VDD, 101 PWM6, 102 T1PWM, 103 XA4, 104 T2PWM, 105 VSS, 106 CAP1, 107 CAP2, 108 XA5, 109 CAP3, 110 T1CTRP, 111 XA6, 112 VDD, 113 VSS, 114 VDDIO, 115 T2CTRP, 116 TDIRA, 117 TCKINA, 118 XA7, 119 XCKOUT, 120 VSS, 121 XA8, 122 C1TRIP, 123 C2TRIP, 124 C3TRIP, 125 XA9, 126 TMS, 127 TDO, 128 VDD, 129 VSS, 130 XA10, 131 TDI, 132 XA11, 133 XZCS6, 134 TSTSEL, 135 /TRST, 136 TCK, 137 EMU0, 138 XA12, 139 XD14, 140 XF, 141 XA13, 142 VSS, 143 VDD, 144 XA14, 145 VDDIO, 146 EMU1, 147 XD15, 148 XA15, 149 XINT1, 150 XNMI, 151 XINT2, 152 XA16, 153 VSS, 154 VDD, 155 SCITXA, 156 XA17, 157 SCIRXA, 158 XA18, 159 /XHOLD, 160 /XRS, 161 XREADY, 162 VDD1, 163 VSS1, 164 ADRFIN, 165 VSSA2, 166 VDDA2, 167 ADINA7, 168 ADINA6, 169 ADINA5, 170 ADINA4, 171 ADINA3, 172 ADINA2, 173 ADINA1, 174 ADINA0, 175 ADCLO, 176 VSSAIO

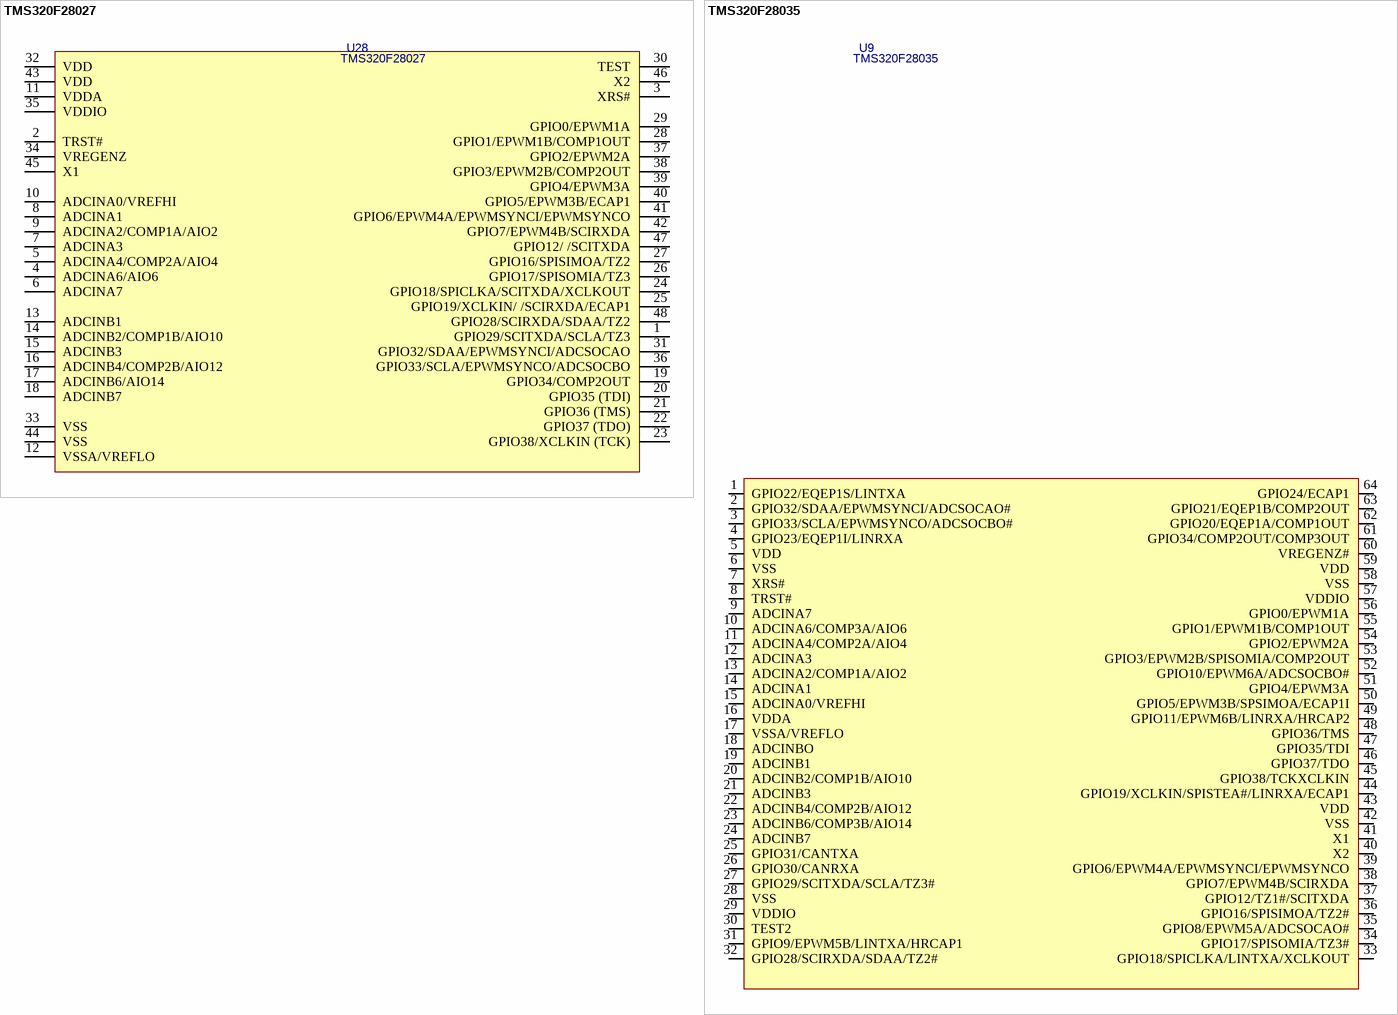
[diagram p11: symbols TMS320F28027 to TMS320F28035]

## TMS320F28027
designator U28
DSP芯片; 联系卖家，免费查找封装: 唯一出售店铺网址https://shop463601444.taobao.com
footprint STM-LQFP48_N (QFP, 48-Leads, Body 7x7mm, Pitch 0.5mm, IPC Medium Density封装库来自淘宝 ID：黄晶宝石)
pins: 1 GPIO29/SCITXDA/SCLA/TZ3, 2 TRST#, 3 XRS#, 4 ADCINA6/AIO6, 5 ADCINA4/COMP2A/AIO4, 6 ADCINA7, 7 ADCINA3, 8 ADCINA1, 9 ADCINA2/COMP1A/AIO2, 10 ADCINA0/VREFHI, 11 VDDA, 12 VSSA/VREFLO, 13 ADCINB1, 14 ADCINB2/COMP1B/AIO10, 15 ADCINB3, 16 ADCINB4/COMP2B/AIO12, 17 ADCINB6/AIO14, 18 ADCINB7, 19 GPIO34/COMP2OUT, 20 GPIO35 (TDI), 21 GPIO36 (TMS), 22 GPIO37 (TDO), 23 GPIO38/XCLKIN (TCK), 24 GPIO18/SPICLKA/SCITXDA/XCLKOUT, 25 GPIO19/XCLKIN/ /SCIRXDA/ECAP1, 26 GPIO17/SPISOMIA/TZ3, 27 GPIO16/SPISIMOA/TZ2, 28 GPIO1/EPWM1B/COMP1OUT, 29 GPIO0/EPWM1A, 30 TEST, 31 GPIO32/SDAA/EPWMSYNCI/ADCSOCAO, 32 VDD, 33 VSS, 34 VREGENZ, 35 VDDIO, 36 GPIO33/SCLA/EPWMSYNCO/ADCSOCBO, 37 GPIO2/EPWM2A, 38 GPIO3/EPWM2B/COMP2OUT, 39 GPIO4/EPWM3A, 40 GPIO5/EPWM3B/ECAP1, 41 GPIO6/EPWM4A/EPWMSYNCI/EPWMSYNCO, 42 GPIO7/EPWM4B/SCIRXDA, 43 VDD, 44 VSS, 45 X1, 46 X2, 47 GPIO12/ /SCITXDA, 48 GPIO28/SCIRXDA/SDAA/TZ2

## TMS320F28035
designator U9
DSP芯片; 联系卖家，免费查找封装: 唯一出售店铺网址https://shop463601444.taobao.com
footprint STM-LQFP64_N (Thin QFP, 64-Leads, Body 10x10mm, Pitch 0.5mm, IPC Medium Density封装库来自淘宝 ID：黄晶宝石)
pins: 1 GPIO22/EQEP1S/LINTXA, 2 GPIO32/SDAA/EPWMSYNCI/ADCSOCAO#, 3 GPIO33/SCLA/EPWMSYNCO/ADCSOCBO#, 4 GPIO23/EQEP1I/LINRXA, 5 VDD, 6 VSS, 7 XRS#, 8 TRST#, 9 ADCINA7, 10 ADCINA6/COMP3A/AIO6, 11 ADCINA4/COMP2A/AIO4, 12 ADCINA3, 13 ADCINA2/COMP1A/AIO2, 14 ADCINA1, 15 ADCINA0/VREFHI, 16 VDDA, 17 VSSA/VREFLO, 18 ADCINBO, 19 ADCINB1, 20 ADCINB2/COMP1B/AIO10, 21 ADCINB3, 22 ADCINB4/COMP2B/AIO12, 23 ADCINB6/COMP3B/AIO14, 24 ADCINB7, 25 GPIO31/CANTXA, 26 GPIO30/CANRXA, 27 GPIO29/SCITXDA/SCLA/TZ3#, 28 VSS, 29 VDDIO, 30 TEST2, 31 GPIO9/EPWM5B/LINTXA/HRCAP1, 32 GPIO28/SCIRXDA/SDAA/TZ2#, 33 GPIO18/SPICLKA/LINTXA/XCLKOUT, 34 GPIO17/SPISOMIA/TZ3#, 35 GPIO8/EPWM5A/ADCSOCAO#, 36 GPIO16/SPISIMOA/TZ2#, 37 GPIO12/TZ1#/SCITXDA, 38 GPIO7/EPWM4B/SCIRXDA, 39 GPIO6/EPWM4A/EPWMSYNCI/EPWMSYNCO, 40 X2, 41 X1, 42 VSS, 43 VDD, 44 GPIO19/XCLKIN/SPISTEA#/LINRXA/ECAP1, 45 GPIO38/TCKXCLKIN, 46 GPIO37/TDO, 47 GPIO35/TDI, 48 GPIO36/TMS, 49 GPIO11/EPWM6B/LINRXA/HRCAP2, 50 GPIO5/EPWM3B/SPSIMOA/ECAP1I, 51 GPIO4/EPWM3A, 52 GPIO10/EPWM6A/ADCSOCBO#, 53 GPIO3/EPWM2B/SPISOMIA/COMP2OUT, 54 GPIO2/EPWM2A, 55 GPIO1/EPWM1B/COMP1OUT, 56 GPIO0/EPWM1A, 57 VDDIO, 58 VSS, 59 VDD, 60 VREGENZ#, 61 GPIO34/COMP2OUT/COMP3OUT, 62 GPIO20/EQEP1A/COMP1OUT, 63 GPIO21/EQEP1B/COMP2OUT, 64 GPIO24/ECAP1

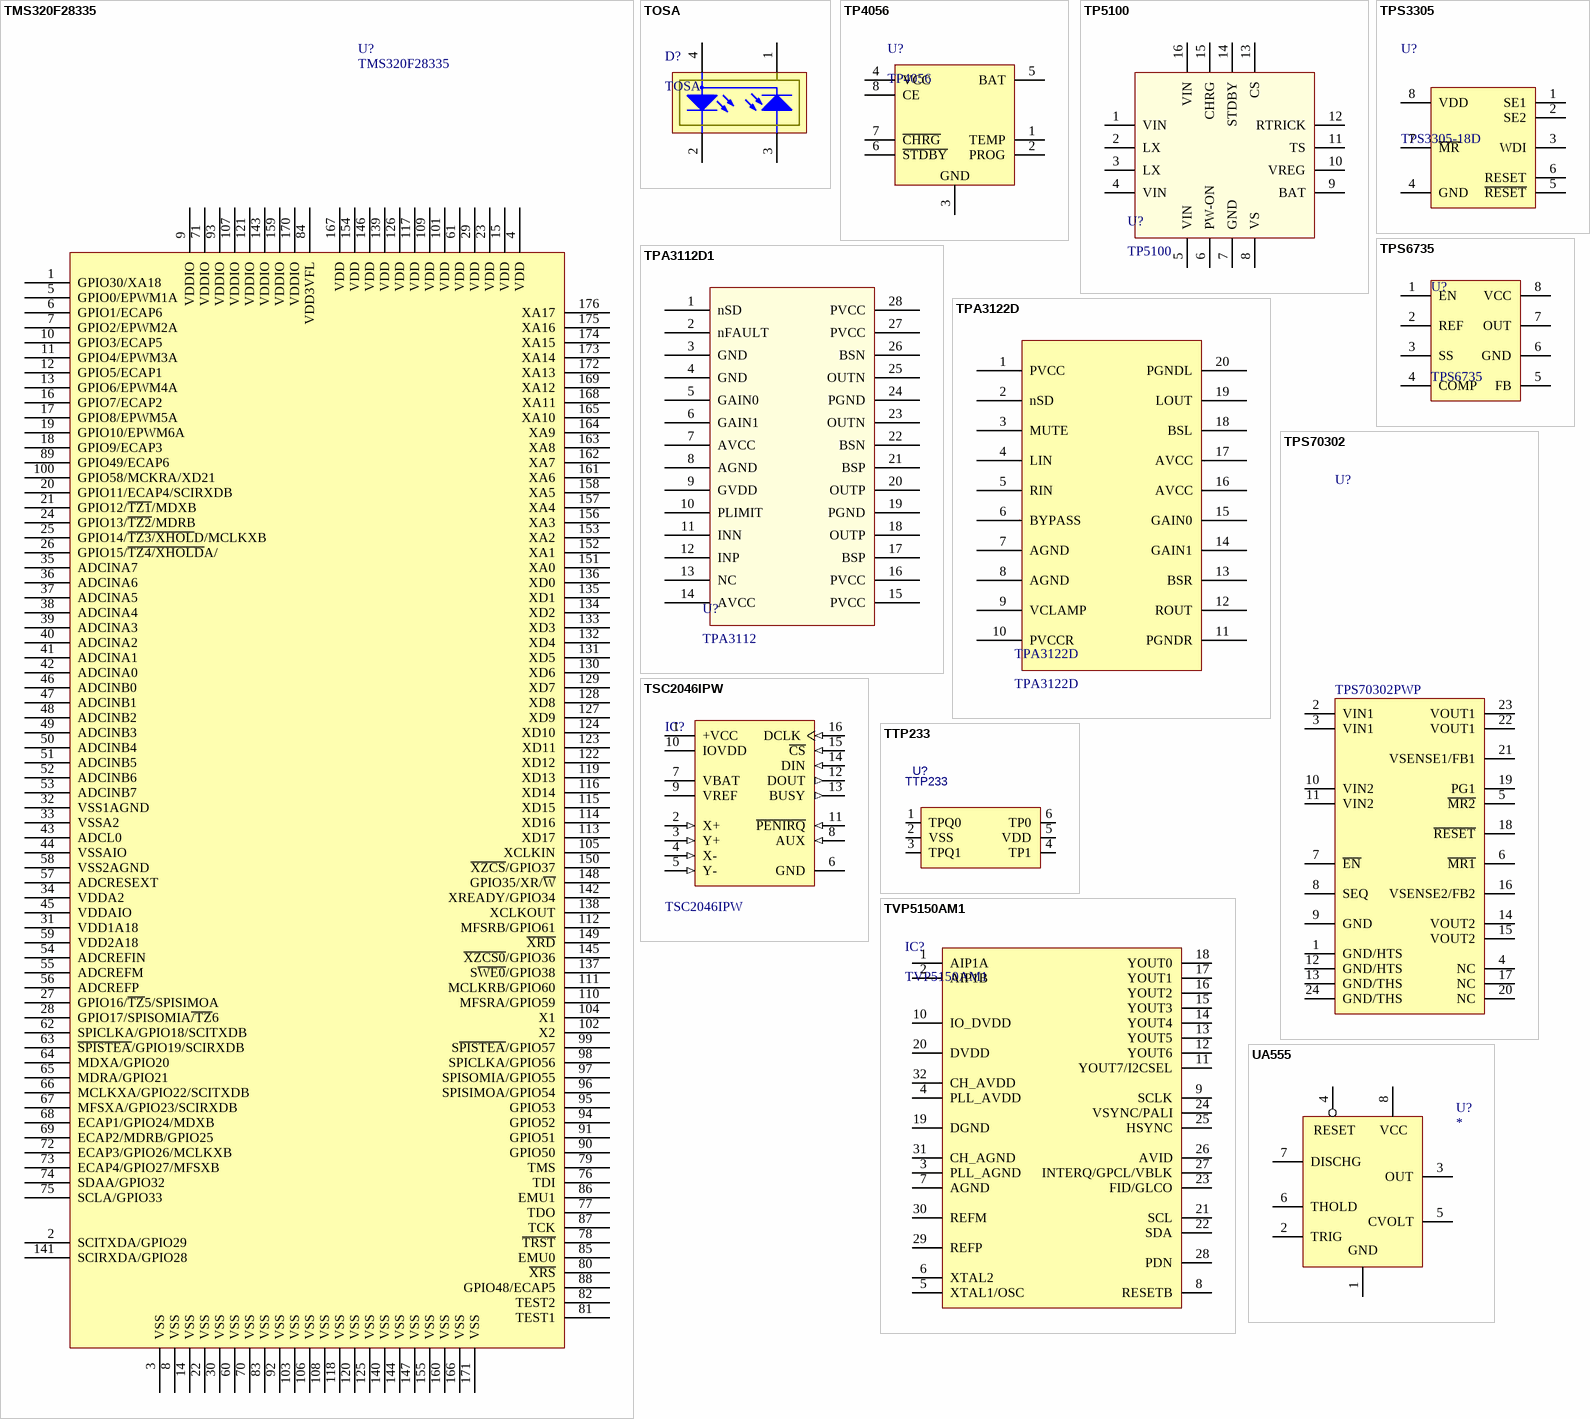
[diagram p12: symbols TMS320F28335 to UA555]

## TMS320F28335
designator U?
DSP芯片; 联系卖家，免费查找封装: 唯一出售店铺网址https://shop463601444.taobao.com
footprint STM-LQFP176_N (Thin QFP, 176-Leads, Body 24x24mm, Pitch 0.5mm, IPC Medium Density)
pins: 1 GPIO30/XA18, 2 SCITXDA/GPIO29, 3 VSS, 4 VDD, 5 GPIO0/EPWM1A, 6 GPIO1/ECAP6, 7 GPIO2/EPWM2A, 8 VSS, 9 VDDIO, 10 GPIO3/ECAP5, 11 GPIO4/EPWM3A, 12 GPIO5/ECAP1, 13 GPIO6/EPWM4A, 14 VSS, 15 VDD, 16 GPIO7/ECAP2, 17 GPIO8/EPWM5A, 18 GPIO9/ECAP3, 19 GPIO10/EPWM6A, 20 GPIO11/ECAP4/SCIRXDB, 21 GPIO12/~{TZ1}/MDXB, 22 VSS, 23 VDD, 24 GPIO13/~{TZ2}/MDRB, 25 GPIO14/~{TZ3/XHOL}D/MCLKXB, 26 GPIO15/~{TZ4/XHOLD}A/, 27 GPIO16/~{TZ}5/SPISIMOA, 28 GPIO17/SPISOMIA~{/TZ}6, 29 VDD, 30 VSS, 31 VDD1A18, 32 VSS1AGND, 33 VSSA2, 34 VDDA2, 35 ADCINA7, 36 ADCINA6, 37 ADCINA5, 38 ADCINA4, 39 ADCINA3, 40 ADCINA2, 41 ADCINA1, 42 ADCINA0, 43 ADCL0, 44 VSSAIO, 45 VDDAIO, 46 ADCINB0, 47 ADCINB1, 48 ADCINB2, 49 ADCINB3, 50 ADCINB4, 51 ADCINB5, 52 ADCINB6, 53 ADCINB7, 54 ADCREFIN, 55 ADCREFM, 56 ADCREFP, 57 ADCRESEXT, 58 VSS2AGND, 59 VDD2A18, 60 VSS, 61 VDD, 62 SPICLKA/GPIO18/SCITXDB, 63 ~{SPISTEA}/GPIO19/SCIRXDB, 64 MDXA/GPIO20, 65 MDRA/GPIO21, 66 MCLKXA/GPIO22/SCITXDB, 67 MFSXA/GPIO23/SCIRXDB, 68 ECAP1/GPIO24/MDXB, 69 ECAP2/MDRB/GPIO25, 70 VSS, 71 VDDIO, 72 ECAP3/GPIO26/MCLKXB, 73 ECAP4/GPIO27/MFSXB, 74 SDAA/GPIO32, 75 SCLA/GPIO33, 76 TDI, 77 TDO, 78 ~{TRST}, 79 TMS, 80 ~{XRS}, 81 TEST1, 82 TEST2, 83 VSS, 84 VDD3VFL, 85 EMU0, 86 EMU1, 87 TCK, 88 GPIO48/ECAP5, 89 GPIO49/ECAP6, 90 GPIO50, 91 GPIO51, 92 VSS, 93 VDDIO, 94 GPIO52, 95 GPIO53, 96 SPISIMOA/GPIO54, 97 SPISOMIA/GPIO55, 98 SPICLKA/GPIO56, 99 S~{PISTEA}/GPIO57, 100 GPIO58/MCKRA/XD21, 101 VDD, 102 X2, 103 VSS, 104 X1, 105 XCLKIN, 106 VSS, 107 VDDIO, 108 VSS, 109 VDD, 110 MFSRA/GPIO59, 111 MCLKRB/GPIO60, 112 MFSRB/GPIO61, 113 XD17, 114 XD16, 115 XD15, 116 XD14, 117 VDD, 118 VSS, 119 XD13, 120 VSS, 121 VDDIO, 122 XD12, 123 XD11, 124 XD10, 125 VSS, 126 VDD, 127 XD9, 128 XD8, 129 XD7, 130 XD6, 131 XD5, 132 XD4, 133 XD3, 134 XD2, 135 XD1, 136 XD0, 137 S~{WE0}/GPIO38, 138 XCLKOUT, 139 VDD, 140 VSS, 141 SCIRXDA/GPIO28, 142 XREADY/GPIO34, 143 VDDIO, 144 VSS, 145 ~{XZCS0}/GPIO36, 146 VDD, 147 VSS, 148 GPIO35/XR/~{W}, 149 ~{XRD}, 150 ~{XZCS}/GPIO37, 151 XA0, 152 XA1, 153 XA2, 154 VDD, 155 VSS, 156 XA3, 157 XA4, 158 XA5, 159 VDDIO, 160 VSS, 161 XA6, 162 XA7, 163 XA8, 164 XA9, 165 XA10, 166 VSS, 167 VDD, 168 XA11, 169 XA12, 170 VDDIO, 171 VSS, 172 XA13, 173 XA14, 174 XA15, 175 XA16, 176 XA17

## TOSA
designator D?
激光器; 联系卖家，免费查找封装: 唯一出售店铺网址https://shop463601444.taobao.com
footprint LD-4P
pins: 1 GND, 2 LD-, 3 PD, 4 PW

## TP4056
designator U?
锂电池充电管理; 联系卖家，免费查找封装: 唯一出售店铺网址https://shop463601444.taobao.com
footprint SOIC-8_EP (5*6*1.8mm（长宽高）封装库来自淘宝卖家 ID：黄晶宝石)
pins: 1 TEMP, 2 PROG, 3 GND, 4 VCC, 5 BAT, 6 ~{STDBY}, 7 ~{CHRG}, 8 CE

## TP5100
designator U?
单节/双节锂电池管理IC; 联系卖家，免费查找封装: 唯一出售店铺网址https://shop463601444.taobao.com
footprint QFN-16 (QFN)
pins: 1 VIN, 2 LX, 3 LX, 4 VIN, 5 VIN, 6 PW-ON, 7 GND, 8 VS, 9 BAT, 10 VREG, 11 TS, 12 RTRICK, 13 CS, 14 STDBY, 15 CHRG, 16 VIN

## TPA3112D1
designator U?, comment TPA3112
Ti D类25W功放芯片; 联系卖家，免费查找封装: 唯一出售店铺网址https://shop463601444.taobao.com
footprint TSSOP28_M
pins: 1 nSD, 2 nFAULT, 3 GND, 4 GND, 5 GAIN0, 6 GAIN1, 7 AVCC, 8 AGND, 9 GVDD, 10 PLIMIT, 11 INN, 12 INP, 13 NC, 14 AVCC, 15 PVCC, 16 PVCC, 17 BSP, 18 OUTP, 19 PGND, 20 OUTP, 21 BSP, 22 BSN, 23 OUTN, 24 PGND, 25 OUTN, 26 BSN, 27 PVCC, 28 PVCC

## TPA3122D
designator TPA3122D
Ti D类15W功放芯片; 联系卖家，免费查找封装: 唯一出售店铺网址https://shop463601444.taobao.com
footprint DIP-20 (Footprint not found)
pins: 1 PVCC, 2 nSD, 3 MUTE, 4 LIN, 5 RIN, 6 BYPASS, 7 AGND, 8 AGND, 9 VCLAMP, 10 PVCCR, 11 PGNDR, 12 ROUT, 13 BSR, 14 GAIN1, 15 GAIN0, 16 AVCC, 17 AVCC, 18 BSL, 19 LOUT, 20 PGNDL

## TPS3305
designator U?, comment TPS3305-18D
DSP电源管理; 联系卖家，免费查找封装: 唯一出售店铺网址https://shop463601444.taobao.com
footprint TSSOP8 (TSSOP-8_L3.0-W4.4-H1.0-LS6.4-P0.65  封装库来自淘宝卖家 ID：黄晶宝石)
pins: 1 SE1, 2 SE2, 3 WDI, 4 GND, 5 ~{RESET}, 6 RESET, 7 ~{MR}, 8 VDD

## TPS6735
designator U?
负电压芯片; 联系卖家，免费查找封装: 唯一出售店铺网址https://shop463601444.taobao.com
footprint SOIC-8_150mil (封装库来自淘宝卖家 ID：黄晶宝石)
pins: 1 EN, 2 REF, 3 SS, 4 COMP, 5 FB, 6 GND, 7 OUT, 8 VCC

## TPS70302
designator U?, comment TPS70302PWP
DSP电源芯片; 联系卖家，免费查找封装: 唯一出售店铺网址https://shop463601444.taobao.com
footprint TSSOP24P (Shrink Small Outline; 24 Leads; Body Width 4.4 mm; Pitch 0.65 mm)
pins: 1 GND/HTS, 2 VIN1, 3 VIN1, 4 NC, 5 ~{MR2}, 6 ~{MR1}, 7 ~{EN}, 8 SEQ, 9 GND, 10 VIN2, 11 VIN2, 12 GND/HTS, 13 GND/THS, 14 VOUT2, 15 VOUT2, 16 VSENSE2/FB2, 17 NC, 18 ~{RESET}, 19 PG1, 20 NC, 21 VSENSE1/FB1, 22 VOUT1, 23 VOUT1, 24 GND/THS

## TSC2046IPW
designator IC?
显示屏触摸驱动芯片; BOM名称: 触摸驱动芯片; 联系卖家，免费查找封装: 唯一出售店铺网址https://shop463601444.taobao.com
footprint TSSOP16_N (5*6.4*1mm（长宽高）)
footprint TSSOP16_L (5*6.4*1mm（长宽高）)
footprint TSSOP16_M (5*6.4*1mm（长宽高）)
pins: 1 +VCC (power), 2 X+ (in), 3 Y+ (in), 4 X- (in), 5 Y- (in), 6 GND (power), 7 VBAT (power), 8 AUX (in), 9 VREF (power), 10 IOVDD (power), 11 ~{PENIRQ} (in), 12 DOUT (out), 13 BUSY (out), 14 DIN (in), 15 ~{CS} (in), 16 DCLK (in)

## TTP233
designator U?
单键触摸开关芯片; 联系卖家，免费查找封装: 唯一出售店铺网址https://shop463601444.taobao.com
footprint SOT23-6M (3x1.6x1.1mm(长宽高))
pins: 1 TPQ0, 2 VSS, 3 TPQ1, 4 TP1, 5 VDD, 6 TP0

## TVP5150AM1
designator IC?
视频解码芯片; 联系卖家，免费查找封装: 唯一出售店铺网址https://shop463601444.taobao.com; BOM名称: 视频解码芯片
footprint TQFP32 5x5_N (32脚，体宽：5x5mm, 脚距：0.5mm)
footprint TQFP32 5x5_L (32脚，体宽：5x5mm, 脚距：0.5mm)
footprint TQFP32 5x5_M (32脚，体宽：5x5mm, 脚距：0.5mm)
pins: 1 AIP1A, 2 AIP1B, 3 PLL_AGND, 4 PLL_AVDD, 5 XTAL1/OSC, 6 XTAL2, 7 AGND, 8 RESETB, 9 SCLK, 10 IO_DVDD, 11 YOUT7/I2CSEL, 12 YOUT6, 13 YOUT5, 14 YOUT4, 15 YOUT3, 16 YOUT2, 17 YOUT1, 18 YOUT0, 19 DGND, 20 DVDD, 21 SCL, 22 SDA, 23 FID/GLCO, 24 VSYNC/PALI, 25 HSYNC, 26 AVID, 27 INTERQ/GPCL/VBLK, 28 PDN, 29 REFP, 30 REFM, 31 CH_AGND, 32 CH_AVDD

## UA555
designator U?
定时器; 联系卖家，免费查找封装: 唯一出售店铺网址https://shop463601444.taobao.com
simulation model UA555 (SUBCKT)
footprint DIP-8 (9.4*7.6*3.8(长宽高）)
pins: 1 GND, 2 TRIG, 3 OUT, 4 RESET, 5 CVOLT, 6 THOLD, 7 DISCHG, 8 VCC

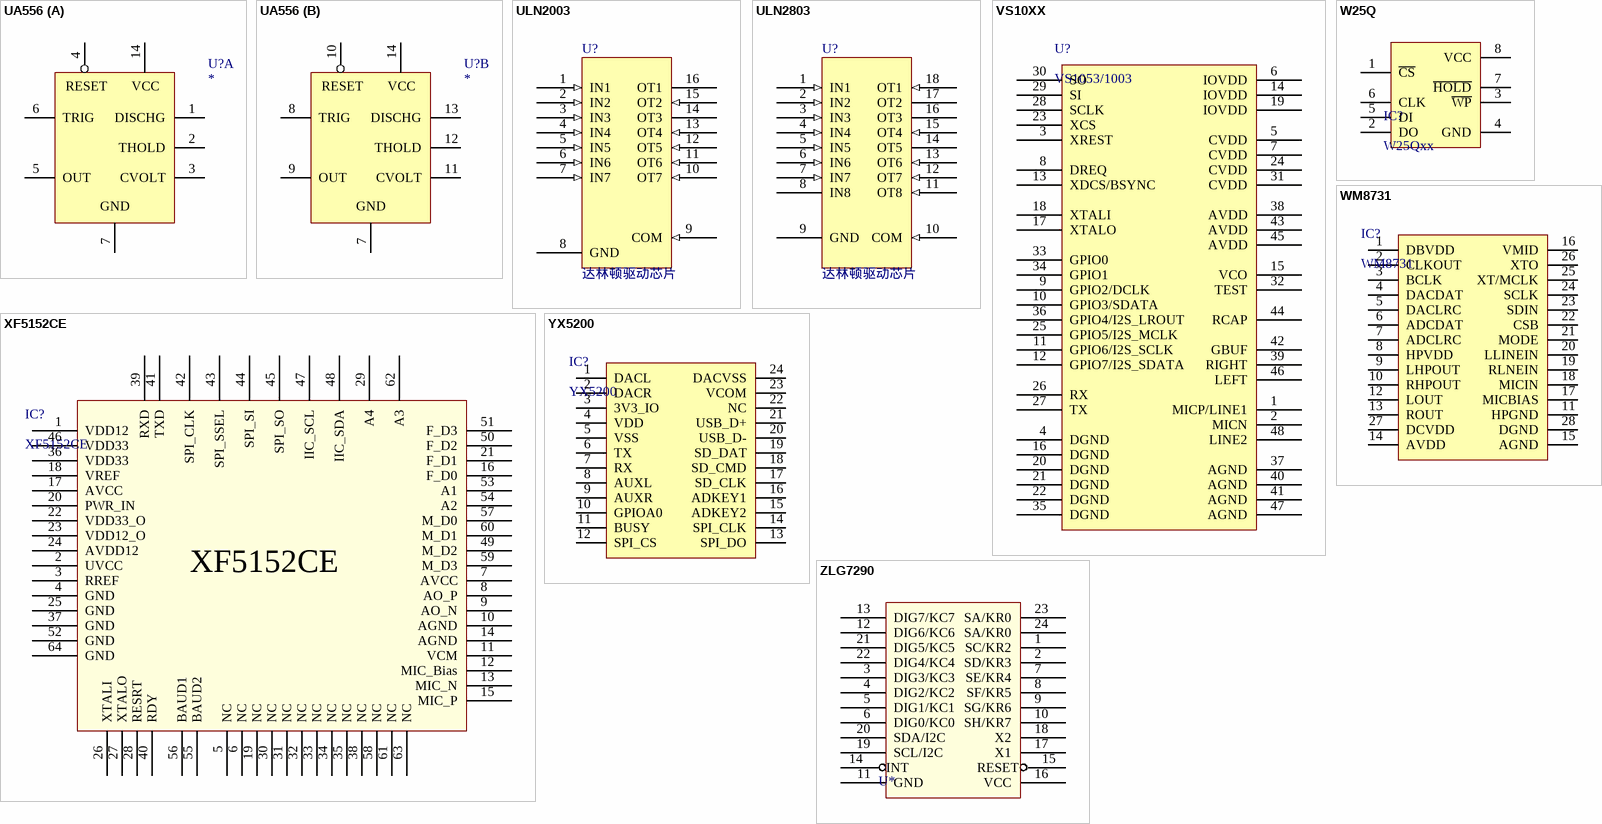
[diagram p13: symbols UA556 to ZLG7290]

## UA556
designator U?
双定时器; 联系卖家，免费查找封装: 唯一出售店铺网址https://shop463601444.taobao.com
footprint DIP-14
simulation model UA556 (SUBCKT)
part A pins: 1 DISCHG, 2 THOLD, 3 CVOLT, 4 RESET, 5 OUT, 6 TRIG, 7 GND, 14 VCC
part B pins: 7 GND, 8 TRIG, 9 OUT, 10 RESET, 11 CVOLT, 12 THOLD, 13 DISCHG, 14 VCC

## ULN2003
designator U?, comment 达林顿驱动芯片
联系卖家，免费查找封装: 唯一出售店铺网址https://shop463601444.taobao.com
footprint DIP-16 (19.3*7.6*3.8(长宽高）)
pins: 1 IN1 (in), 2 IN2 (in), 3 IN3 (in), 4 IN4 (in), 5 IN5 (in), 6 IN6 (in), 7 IN7 (in), 8 GND (power), 9 COM (in), 10 OT7 (in), 11 OT6 (in), 12 OT5 (in), 13 OT4 (in), 14 OT3 (hiz), 15 OT2 (in), 16 OT1 (power)

## ULN2803
designator U?, comment 达林顿驱动芯片
联系卖家，免费查找封装: 唯一出售店铺网址https://shop463601444.taobao.com
footprint DIP-18 (23*7.6*3.8(长宽高） 淘宝ID:黄晶宝石   店铺网址:https://shop463601444.taobao.com)
pins: 1 IN1 (in), 2 IN2 (in), 3 IN3 (in), 4 IN4 (in), 5 IN5 (in), 6 IN6 (in), 7 IN7 (in), 8 IN8, 9 GND (power), 10 COM (in), 11 OT8 (in), 12 OT7 (in), 13 OT6 (in), 14 OT5 (hiz), 15 OT4 (in), 16 OT3 (power), 17 OT2, 18 OT1 (in)

## VS10XX
designator U?, comment VS1053/1003
音频解码芯片; 联系卖家，免费查找封装: 唯一出售店铺网址https://shop463601444.taobao.com
footprint LQFP-48_M (Thin QFP, 48-Leads, Body 7x7mm, Pitch 0.5mm, IPC Low Density)
pins: 1 MICP/LINE1, 2 MICN, 3 XREST, 4 DGND, 5 CVDD, 6 IOVDD, 7 CVDD, 8 DREQ, 9 GPIO2/DCLK, 10 GPIO3/SDATA, 11 GPIO6/I2S_SCLK, 12 GPIO7/I2S_SDATA, 13 XDCS/BSYNC, 14 IOVDD, 15 VCO, 16 DGND, 17 XTALO, 18 XTALI, 19 IOVDD, 20 DGND, 21 DGND, 22 DGND, 23 XCS, 24 CVDD, 25 GPIO5/I2S_MCLK, 26 RX, 27 TX, 28 SCLK, 29 SI, 30 SO, 31 CVDD, 32 TEST, 33 GPIO0, 34 GPIO1, 35 DGND, 36 GPIO4/I2S_LROUT, 37 AGND, 38 AVDD, 39 RIGHT, 40 AGND, 41 AGND, 42 GBUF, 43 AVDD, 44 RCAP, 45 AVDD, 46 LEFT, 47 AGND, 48 LINE2

## W25Q
designator IC?, comment W25Qxx
SPI Flash; BOM名称: 外置Flash; 联系卖家，免费查找封装: 唯一出售店铺网址https://shop463601444.taobao.com
footprint SOP8W_N (5.3*8.3*1.8mm（长宽高）)
footprint SOP8W_L (5.3*8.3*1.8mm（长宽高）)
footprint SOP8W_M (5.3*8.3*1.8mm（长宽高）)
pins: 1 ~{CS}, 2 DO, 3 ~{WP}, 4 GND, 5 DI, 6 CLK, 7 ~{HOLD}, 8 VCC

## WM8731
designator IC?
音频PCM编解码芯片; 联系卖家，免费查找封装: 唯一出售店铺网址https://shop463601444.taobao.com; BOM名称: 音频PCM编解码芯片
footprint SSOP28_L (10.2*7.8*1.9mm(长宽高）)
footprint SSOP28_N (10.2*7.8*1.9mm(长宽高）)
footprint SSOP28_M (10.2*7.8*1.9mm(长宽高）)
pins: 1 DBVDD, 2 CLKOUT "DBVDD", 3 BCLK "DBVDD", 4 DACDAT "DBVDD", 5 DACLRC "DBVDD", 6 ADCDAT "DBVDD", 7 ADCLRC "DBVDD", 8 HPVDD "DBVDD", 9 LHPOUT "DBVDD", 10 RHPOUT "DBVDD", 11 HPGND "DBVDD", 12 LOUT "DBVDD", 13 ROUT "DBVDD", 14 AVDD "DBVDD", 15 AGND "DBVDD", 16 VMID "DBVDD", 17 MICBIAS "DBVDD", 18 MICIN "DBVDD", 19 RLNEIN "DBVDD", 20 LLINEIN "DBVDD", 21 MODE "DBVDD", 22 CSB "DBVDD", 23 SDIN "DBVDD", 24 SCLK "DBVDD", 25 XT/MCLK "DBVDD", 26 XTO "DBVDD", 27 DCVDD "DBVDD", 28 DGND "DBVDD"

## XF5152CE
designator IC?
语音识别合成芯片; BOM名称: 语音合成芯片; 联系卖家，免费查找封装: 唯一出售店铺网址https://shop463601444.taobao.com
footprint LQFP64 10X10_N (64脚，体宽10x10mm，脚距0.5mm)
footprint LQFP64 10X10_M (64脚，体宽10x10mm，脚距0.5mm)
footprint LQFP64 10X10_L (64脚，体宽10x10mm，脚距0.5mm)
pins: 1 VDD12 "DBVDD", 2 UVCC "DBVDD", 3 RREF "DBVDD", 4 GND "DBVDD", 5 NC "DBVDD", 6 NC "DBVDD", 7 AVCC "DBVDD", 8 AO_P "DBVDD", 9 AO_N "DBVDD", 10 AGND "DBVDD", 11 VCM "DBVDD", 12 MIC_Bias "DBVDD", 13 MIC_N "DBVDD", 14 AGND "DBVDD", 15 MIC_P "DBVDD", 16 F_D0 "DBVDD", 17 AVCC "DBVDD", 18 VREF "DBVDD", 19 NC "DBVDD", 20 PWR_IN "DBVDD", 21 F_D1 "DBVDD", 22 VDD33_O "DBVDD", 23 VDD12_O "DBVDD", 24 AVDD12 "DBVDD", 25 GND "DBVDD", 26 XTALI "DBVDD", 27 XTALO "DBVDD", 28 RESRT "DBVDD", 29 A4 "DBVDD", 30 NC "DBVDD", 31 NC "DBVDD", 32 NC "DBVDD", 33 NC "DBVDD", 34 NC "DBVDD", 35 NC "DBVDD", 36 VDD33 "DBVDD", 37 GND "DBVDD", 38 NC "DBVDD", 39 RXD "DBVDD", 40 RDY "DBVDD", 41 TXD "DBVDD", 42 SPI_CLK "DBVDD", 43 SPI_SSEL "DBVDD", 44 SPI_SI "DBVDD", 45 SPI_SO "DBVDD", 46 VDD33 "DBVDD", 47 IIC_SCL "DBVDD", 48 IIC_SDA "DBVDD", 49 M_D2 "DBVDD", 50 F_D2 "DBVDD", 51 F_D3 "DBVDD", 52 GND "DBVDD", 53 A1 "DBVDD", 54 A2 "DBVDD", 55 BAUD2 "DBVDD", 56 BAUD1 "DBVDD", 57 M_D0 "DBVDD", 58 NC "DBVDD", 59 M_D3 "DBVDD", 60 M_D1 "DBVDD", 61 NC "DBVDD", 62 A3 "DBVDD", 63 NC "DBVDD", 64 GND "DBVDD"

## YX5200
designator IC?
MP3解码芯片; 联系卖家，免费查找封装: 唯一出售店铺网址https://shop463601444.taobao.com; BOM名称: MP3解码芯片
footprint SSOP24_N (8.3*7.8*1.6（长宽高）)
footprint SSOP24_L (8.3*7.8*1.6（长宽高）)
footprint SSOP24_M (8.3*7.8*1.6（长宽高）)
pins: 1 DACL, 2 DACR, 3 3V3_IO, 4 VDD, 5 VSS, 6 TX, 7 RX, 8 AUXL, 9 AUXR, 10 GPIOA0, 11 BUSY, 12 SPI_CS, 13 SPI_DO, 14 SPI_CLK, 15 ADKEY2, 16 ADKEY1, 17 SD_CLK, 18 SD_CMD, 19 SD_DAT, 20 USB_D-, 21 USB_D+, 22 NC, 23 VCOM, 24 DACVSS

## ZLG7290
designator U*, comment ZLG7920  (value not drawn)
按键8位数码管控制芯片; 联系卖家，免费查找封装: 唯一出售店铺网址https://shop463601444.taobao.com
footprint ZLG_7290
pins: 1 SC/KR2, 2 SD/KR3, 3 DIG3/KC3, 4 DIG2/KC2, 5 DIG1/KC1, 6 DIG0/KC0, 7 SE/KR4, 8 SF/KR5, 9 SG/KR6, 10 SH/KR7, 11 GND (power), 12 DIG6/KC6, 13 DIG7/KC7, 14 INT, 15 RESET, 16 VCC, 17 X1, 18 X2, 19 SCL/I2C, 20 SDA/I2C, 21 DIG5/KC5, 22 DIG4/KC4, 23 SA/KR0, 24 SA/KR0